# EAGLE library part FTDI-230X (library components)
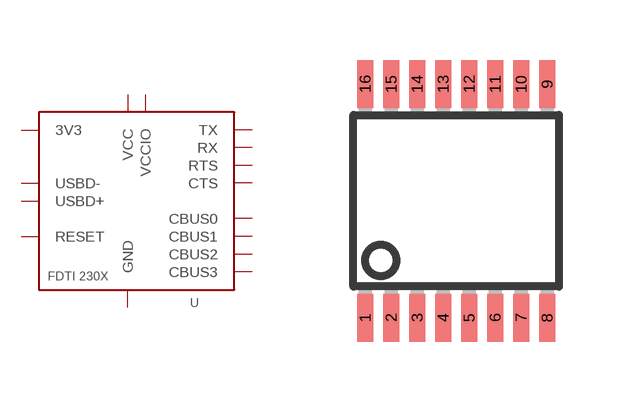
[diagram p11: symbol with the pads of SSOP16; footprint SSOP16]

Designator prefix -

## FTDI-230X  [SSOP16]
1  TX  out
2  RTS  out
3  VCCIO  pwr
4  RX  in
5  GND  pwr
6  CTS  in
7  CBUS2
8  USBD+  in
9  USBD-  in
10  3V3
11  RESET  in
12  VCC  pwr
13  GND  pwr
14  CBUS1
15  CBUS0
16  CBUS3

## Footprint SSOP16 (pad centres in mm)
Small Shrink Outline Package
smd 0.4 x 1.2: 1 -2.275,-2.925; 2 -1.625,-2.925; 3 -0.975,-2.925; 4 -0.325,-2.925; 5 0.325,-2.925; 6 0.975,-2.925; 7 1.625,-2.925; 8 2.275,-2.925; 9 2.275,2.925; 10 1.625,2.925; 11 0.975,2.925; 12 0.325,2.925; 13 -0.325,2.925; 14 -0.975,2.925; 15 -1.625,2.925; 16 -2.275,2.925